# Altium schematic symbol library 转接板封装原理图.SchLib: 62 symbols
Pins are listed as number, name and electrical type; pins without a type are passive.

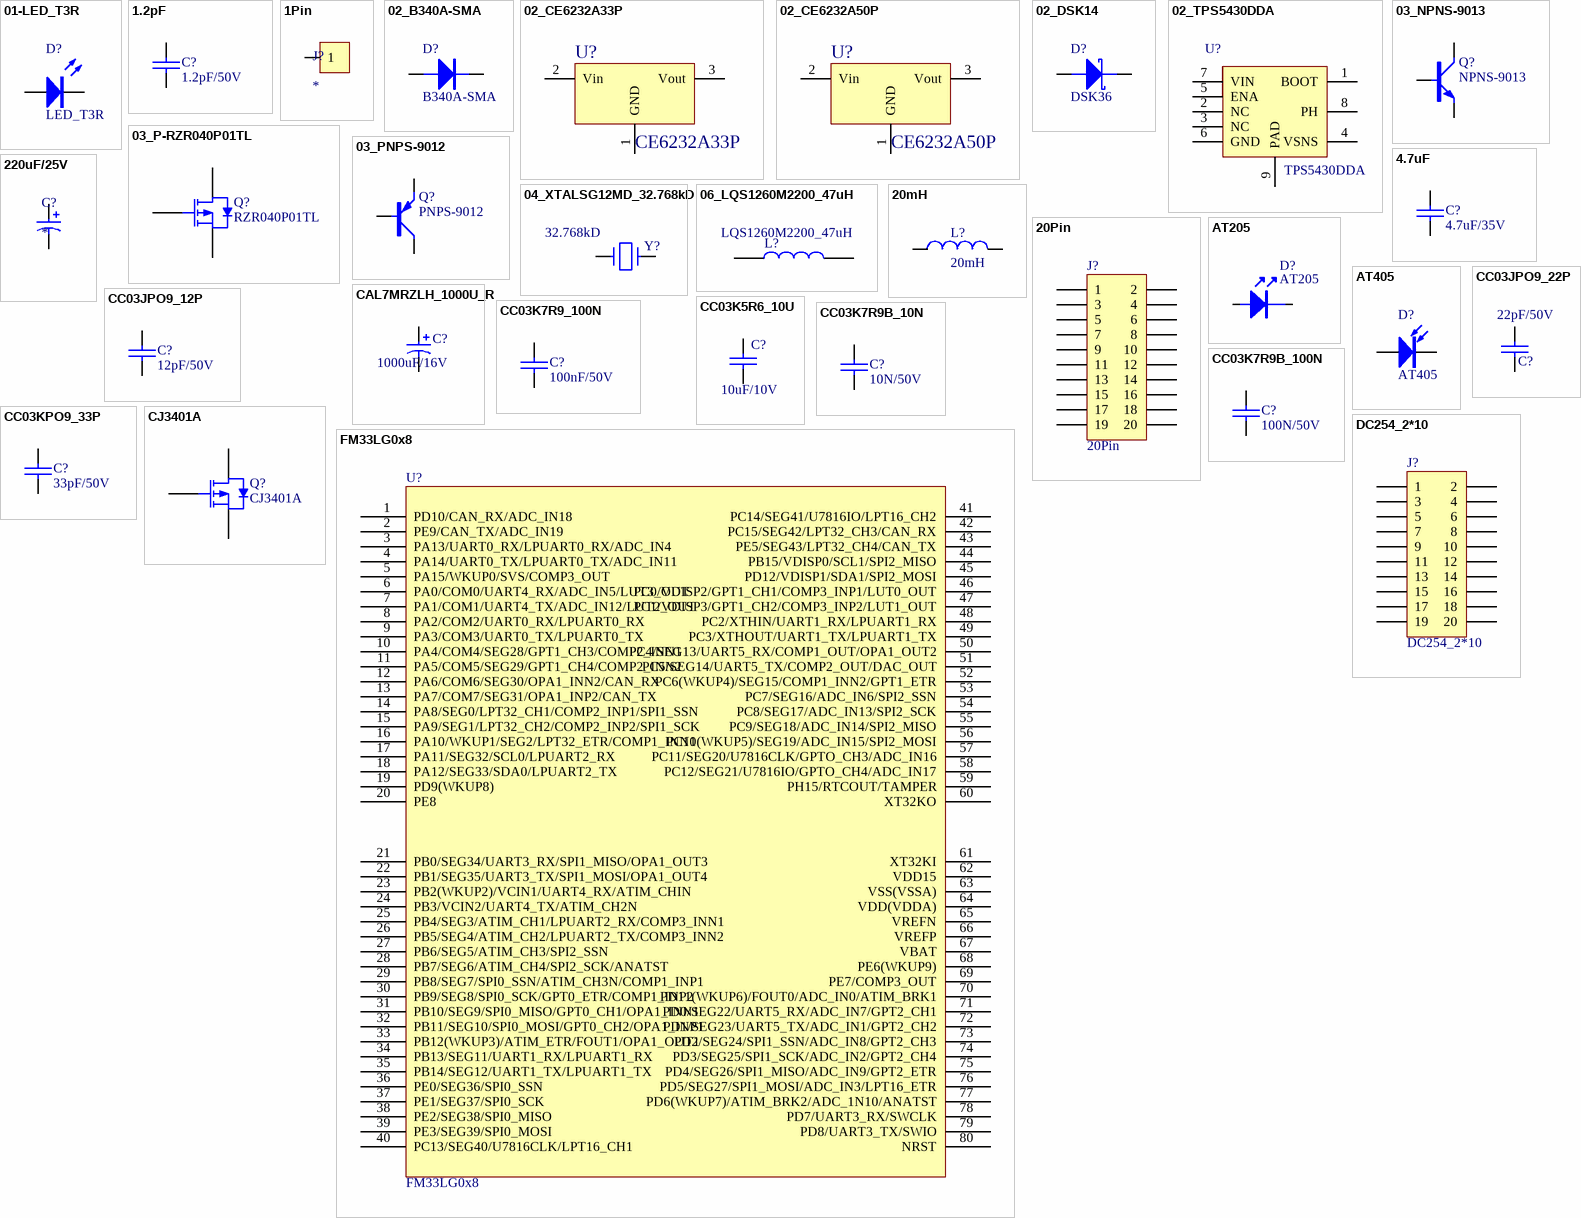
[diagram p0: symbols 01-LED_T3R to FM33LG0x8]

## 01-LED_T3R
designator D?, comment LED_T3R
圆形插件,3mm 圆形,插件,红光,湖北匡通电子有限公司,3BB4HC; Part Number: 101040102-0001; Part Name: 发光二极管; ID: 6; SMD/DIP: DIP
footprint LED2_300
pins: 1, 2

## 1.2pF
designator C?, comment 1.2pF/50V
Part Number: 101020103-0027; Part Name: 0603贴片电容; ID: 17; SMD/DIP: SMD
footprint CAP0603
pins: 1, 2

## 1Pin
designator J?
footprint 顶针孔1
footprint 顶针孔2
pins: 1

## 02_B340A-SMA
designator D?, comment B340A-SMA
Part Number: 101040101-0014; Part Name: 贴片肖特基; ID: 24
footprint DO-214AC
pins: 1, 2

## 02_CE6232A33P
designator U?, comment CE6232A33P
CE6232-3.3,CE6232-3.3,SOT89-3,8V,1.8V,0.11V,3.3V,300mA,0.8uA,南京芯力微电子有限公司; Part Number: 1010503-0029; Part Name: 线性稳压芯片; ID: 5; SMD/DIP: SMD
footprint SOT-89
pins: 1 GND, 2 Vin, 3 Vout
2 alternate drawings of the same symbol

## 02_CE6232A50P
designator U?, comment CE6232A50P
CE6232A50P,CE6232A50P,SOT89-3,8 V,1.8 V,0.11 V,5 V,500mA,0.8 uA,南京芯力微电子有限公司; Part Number: 1010503-0028; Part Name: 线性稳压芯片; ID: 5; SMD/DIP: SMD
footprint SOT-89
pins: 1 GND, 2 Vin, 3 Vout
2 alternate drawings of the same symbol

## 02_DSK14
designator D?, comment DSK36
DSK14,SOD-123FL,1 A,40 V,28 V,台湾强茂集团苏州群鑫电子,DSK14; Part Number: 101040101-0043; Part Name: 二极管; ID: 10; SMD/DIP: SMD
footprint SOD-123FL
pins: 1, 2

## 02_TPS5430DDA
designator U?, comment TPS5430DDA
TPS5430DDA,SOP8,TI,TPS5430DDA; Part Number: 101050101-0053; Part Name: 电源芯片; ID: 9; SMD/DIP: SMD
footprint SOP-8-P
pins: 1 BOOT, 2 NC, 3 NC, 4 VSNS, 5 ENA, 6 GND, 7 VIN, 8 PH, 9 PAD
2 alternate drawings of the same symbol

## 03_NPNS-9013
designator Q?, comment NPNS-9013
9013,NPN,SOT-23,长电,S9013; Part Number: 101040201-0002; Part Name: 贴片三极管; ID: 15; SMD/DIP: SMD
footprint SOT-23
pins: 1 B, 2 E, 3 C

## 03_P-RZR040P01TL
designator Q?, comment RZR040P01TL
RZR040P01TL；1.5v导通,P-MOS,SOT-23,罗姆,RZR040P01TL; Part Number: 101040201-0010; Part Name: PMOS管; ID: 18; SMD/DIP: SMD
footprint SOT-23
pins: 1 G, 2 S, 3 D

## 03_PNPS-9012
designator Q?, comment PNPS-9012
9012,PNP,SOT-23,JCET;长电,S9012; Part Number: 101040201-0001; Part Name: 贴片三极管; ID: 17; SMD/DIP: SMD
footprint SOT-23
pins: 1 B, 2 E, 3 C

## 4.7uF
designator C?, comment 4.7uF/35V
475,4.7uf,35 V,±10%,0603,X5R,TDK,C1608X5R1V475KT000E; Part Number: 101020103-0021; Part Name: 0603贴片电容; ID: 34
footprint CAP0603
pins: 1, 2

## 04_XTALSG12MD_32.768kD
designator Y?, comment 32.768kD
Part Number: 1010601-0020; Part Name: 贴片晶振; ID: 20; SMD/DIP: SMD
footprint SMD-3215_2P
pins: 1, 2

## 06_LQS1260M2200_47uH
designator L?, comment LQS1260M2200_47uH
47uH/2.2A,±20%，0.072Ω，L1200X1200X600; Part Number: 1010302-0007; Part Name: 贴片电感; ID: 3
footprint LQS1212
pins: 1, 2

## 20mH
designator L?
footprint 20mH
pins: 1, 2

## 20Pin
designator J?
DC2 2.54mm 2x10pin,2.54mm间距，2x10pin，32×8.55×27.5mm,母头,双排,双排牛角座; Part Number: 1010902-0139; Part Name: DC牛角座; ID: 4; SMD/DIP: DIP
footprint DC254_2*10 - duplicate
pins: 1, 2, 3, 4, 5, 6, 7, 8, 9, 10, 11, 12, 13, 14, 15, 16, 17, 18, 19, 20

## 220uF/25V
designator C?
220UF,25 V,±20%,8*10mm,立隆电子工业股份有限公司,VEJ221M1ETR-0810; 料号: 1010203-0037
footprint 220uF 25V
pins: 1, 2

## AT205
designator D?
footprint AT205/405
pins: 1, 2

## AT405
designator D?
红外接收头，插件，红光，AT405_PD_01; Part Number: 101040102-0011; Part Name: 红外接收管; Manufacturer: 品观; ID: 6; SMD/DIP: DIP
footprint AT205/405
pins: 1 A, 2 K

## CAL7MRZLH_1000U_R
designator C?, comment 1000uF/16V
1000uF,16 V,±20%,8*20mm,Rubycon,16ZLH1000M; Part Number: 1010203-0029; Part Name: 电解电容; ID: 2; SMD/DIP: DIP
footprint CAPPC_350_800_1600
pins: 1, 2

## CC03JPO9_12P
designator C?, comment 12pF/50V
12P,50 V,±5%,0603,国巨,CC0603JRNPO9BN12; Part Number: 101020103-0005; Part Name: 0603贴片电容; ID: 11; SMD/DIP: SMD
footprint CAP0603
pins: 1, 2

## CC03JPO9_22P
designator C?, comment 22pF/50V
22pF,50 V,±5%,0603,国巨,CC0603JRNPO9BN22; Part Number: 101020103-0009; Part Name: 0603贴片电容; ID: 16; SMD/DIP: SMD
footprint CAP0603
pins: 1, 2

## CC03K5R6_10U
designator C?, comment 10uF/10V
106pF,10 V,±10%,0603,村田,GRM188R61A106KE47D; Part Number: 101020103-0026; Part Name: 0603贴片电容; ID: 8; SMD/DIP: SMD
footprint CAP0603
pins: 1, 2

## CC03K7R9_100N
designator C?, comment 100nF/50V
104pF,50 V,±10%,0603,国巨,CC0603KRX7R9BB104; Part Number: 101020103-0021; Part Name: 0603贴片电容; ID: 3; SMD/DIP: SMD
footprint CAP0603
pins: 1, 2

## CC03K7R9B_10N
designator C?, comment 10N/50V
10N/50V，±10%，0603; Part Number: 101020103-0007; Part Name: 0603贴片电容; ID: 35
footprint CAP0603
pins: 1, 2

## CC03K7R9B_100N
designator C?, comment 100N/50V
100N/50V，±10%，0603; Part Number: 101020103-0021; Part Name: 0603贴片电容; ID: 34
footprint CAP0603
pins: 1, 2

## CC03KPO9_33P
designator C?, comment 33pF/50V
33pF,50 V,±10%,0603,国巨,CC0603KRNPO9BN33; Part Number: 101020103-0027; Part Name: 0603贴片电容; ID: 17; SMD/DIP: SMD
footprint CAP0603
pins: 1, 2

## CJ3401A
designator Q?
CJ3401A,Rohs,P-MOS,SOT-23,江苏长晶,CJ3401A,无铅; Part Number: 101040201-0028; Part Name: PMOS管; ID: 18; SMD/DIP: SMD
footprint SOT-23
pins: 1 G, 2 S, 3 D

## DC254_2*10
designator J?
DC2 2.54mm 2x10pin,2.54mm间距，2x10pin，32×8.55×27.5mm,母头,双排,双排牛角座; Part Number: 1010902-0139; Part Name: DC牛角座; ID: 4; SMD/DIP: DIP
footprint DC254_2*10
pins: 1, 2, 3, 4, 5, 6, 7, 8, 9, 10, 11, 12, 13, 14, 15, 16, 17, 18, 19, 20

## FM33LG0x8
designator U?
footprint LQFP80
footprint LQFP80
pins: 1 PD10/CAN_RX/ADC_IN18, 2 PE9/CAN_TX/ADC_IN19, 3 PA13/UART0_RX/LPUART0_RX/ADC_IN4, 4 PA14/UART0_TX/LPUART0_TX/ADC_IN11, 5 PA15/WKUP0/SVS/COMP3_OUT, 6 PA0/COM0/UART4_RX/ADC_IN5/LUT3_OUT, 7 PA1/COM1/UART4_TX/ADC_IN12/LUT2_OUT, 8 PA2/COM2/UART0_RX/LPUART0_RX, 9 PA3/COM3/UART0_TX/LPUART0_TX, 10 PA4/COM4/SEG28/GPT1_CH3/COMP2_INN1, 11 PA5/COM5/SEG29/GPT1_CH4/COMP2_INN2, 12 PA6/COM6/SEG30/OPA1_INN2/CAN_RX, 13 PA7/COM7/SEG31/OPA1_INP2/CAN_TX, 14 PA8/SEG0/LPT32_CH1/COMP2_INP1/SPI1_SSN, 15 PA9/SEG1/LPT32_CH2/COMP2_INP2/SPI1_SCK, 16 PA10/WKUP1/SEG2/LPT32_ETR/COMP1_INN1, 17 PA11/SEG32/SCL0/LPUART2_RX, 18 PA12/SEG33/SDA0/LPUART2_TX, 19 PD9(WKUP8), 20 PE8, 21 PB0/SEG34/UART3_RX/SPI1_MISO/OPA1_OUT3, 22 PB1/SEG35/UART3_TX/SPI1_MOSI/OPA1_OUT4, 23 PB2(WKUP2)/VCIN1/UART4_RX/ATIM_CHIN, 24 PB3/VCIN2/UART4_TX/ATIM_CH2N, 25 PB4/SEG3/ATIM_CH1/LPUART2_RX/COMP3_INN1, 26 PB5/SEG4/ATIM_CH2/LPUART2_TX/COMP3_INN2, 27 PB6/SEG5/ATIM_CH3/SPI2_SSN, 28 PB7/SEG6/ATIM_CH4/SPI2_SCK/ANATST, 29 PB8/SEG7/SPI0_SSN/ATIM_CH3N/COMP1_INP1, 30 PB9/SEG8/SPI0_SCK/GPT0_ETR/COMP1_INP2, 31 PB10/SEG9/SPI0_MISO/GPT0_CH1/OPA1_INN1, 32 PB11/SEG10/SPI0_MOSI/GPT0_CH2/OPA1_INP1, 33 PB12(WKUP3)/ATIM_ETR/FOUT1/OPA1_OUT1, 34 PB13/SEG11/UART1_RX/LPUART1_RX, 35 PB14/SEG12/UART1_TX/LPUART1_TX, 36 PE0/SEG36/SPI0_SSN, 37 PE1/SEG37/SPI0_SCK, 38 PE2/SEG38/SPI0_MISO, 39 PE3/SEG39/SPI0_MOSI, 40 PC13/SEG40/U7816CLK/LPT16_CH1, 41 PC14/SEG41/U7816IO/LPT16_CH2, 42 PC15/SEG42/LPT32_CH3/CAN_RX, 43 PE5/SEG43/LPT32_CH4/CAN_TX, 44 PB15/VDISP0/SCL1/SPI2_MISO, 45 PD12/VDISP1/SDA1/SPI2_MOSI, 46 PC0/VDISP2/GPT1_CH1/COMP3_INP1/LUT0_OUT, 47 PC1/VDISP3/GPT1_CH2/COMP3_INP2/LUT1_OUT, 48 PC2/XTHIN/UART1_RX/LPUART1_RX, 49 PC3/XTHOUT/UART1_TX/LPUART1_TX, 50 PC4/SEG13/UART5_RX/COMP1_OUT/OPA1_OUT2, 51 PC5/SEG14/UART5_TX/COMP2_OUT/DAC_OUT, 52 PC6(WKUP4)/SEG15/COMP1_INN2/GPT1_ETR, 53 PC7/SEG16/ADC_IN6/SPI2_SSN, 54 PC8/SEG17/ADC_IN13/SPI2_SCK, 55 PC9/SEG18/ADC_IN14/SPI2_MISO, 56 PC10(WKUP5)/SEG19/ADC_IN15/SPI2_MOSI, 57 PC11/SEG20/U7816CLK/GPTO_CH3/ADC_IN16, 58 PC12/SEG21/U7816IO/GPTO_CH4/ADC_IN17, 59 PH15/RTCOUT/TAMPER, 60 XT32KO, 61 XT32KI, 62 VDD15, 63 VSS(VSSA), 64 VDD(VDDA), 65 VREFN, 66 VREFP "VREFN", 67 VBAT "VREFN", 68 PE6(WKUP9) "VREFN", 69 PE7/COMP3_OUT "VREFN", 70 PD11(WKUP6)/FOUT0/ADC_IN0/ATIM_BRK1 "VREFN", 71 PD0/SEG22/UART5_RX/ADC_IN7/GPT2_CH1 "VREFN", 72 PD1/SEG23/UART5_TX/ADC_IN1/GPT2_CH2 "VREFN", 73 PD2/SEG24/SPI1_SSN/ADC_IN8/GPT2_CH3 "VREFN", 74 PD3/SEG25/SPI1_SCK/ADC_IN2/GPT2_CH4 "VREFN", 75 PD4/SEG26/SPI1_MISO/ADC_IN9/GPT2_ETR "VREFN", 76 PD5/SEG27/SPI1_MOSI/ADC_IN3/LPT16_ETR "VREFN", 77 PD6(WKUP7)/ATIM_BRK2/ADC_1N10/ANATST "VREFN", 78 PD7/UART3_RX/SWCLK "VREFN", 79 PD8/UART3_TX/SWIO "VREFN", 80 NRST "VREFN"

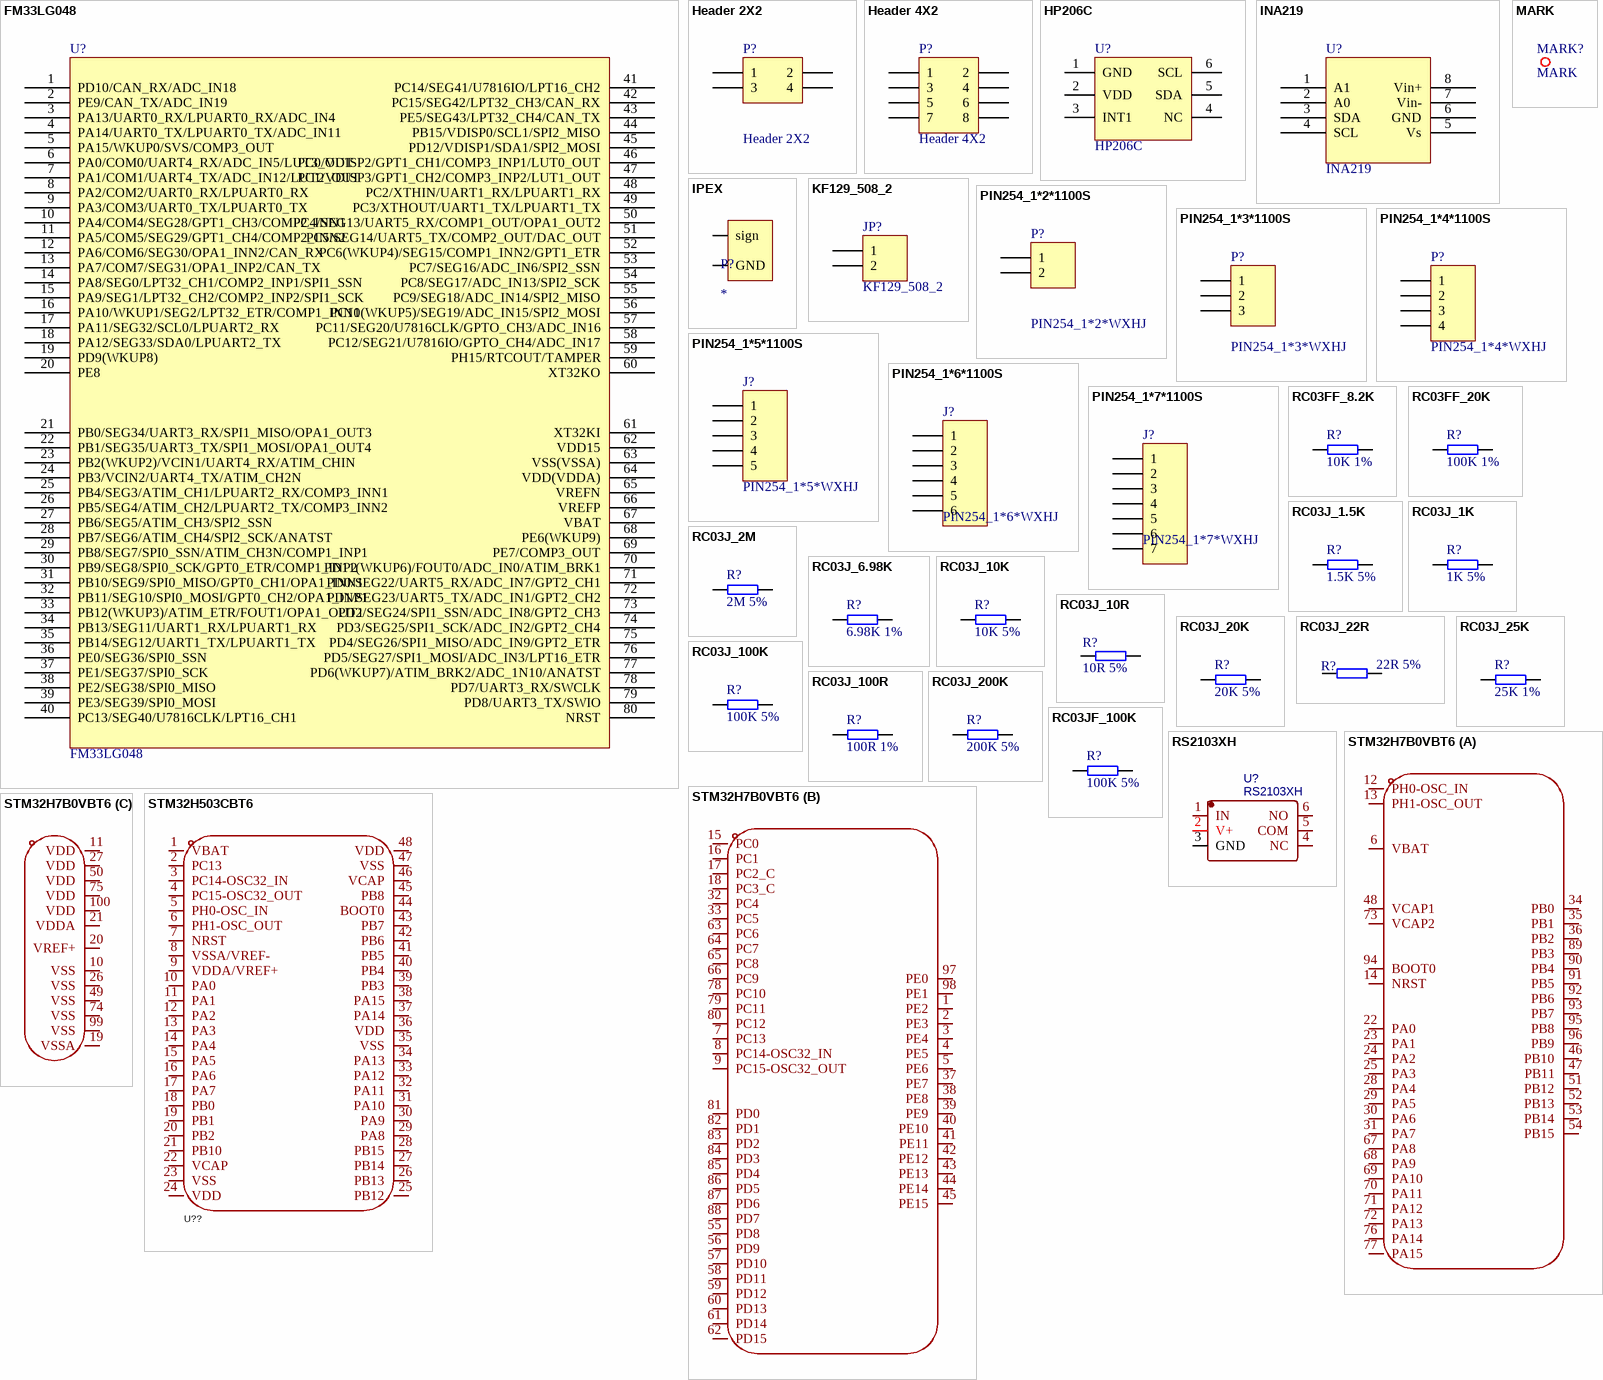
[diagram p1: symbols FM33LG048 to STM32H503CBT6]

## FM33LG048
designator U?
101050101-0261
footprint LQFP80
pins: 1 PD10/CAN_RX/ADC_IN18, 2 PE9/CAN_TX/ADC_IN19, 3 PA13/UART0_RX/LPUART0_RX/ADC_IN4, 4 PA14/UART0_TX/LPUART0_TX/ADC_IN11, 5 PA15/WKUP0/SVS/COMP3_OUT, 6 PA0/COM0/UART4_RX/ADC_IN5/LUT3_OUT, 7 PA1/COM1/UART4_TX/ADC_IN12/LUT2_OUT, 8 PA2/COM2/UART0_RX/LPUART0_RX, 9 PA3/COM3/UART0_TX/LPUART0_TX, 10 PA4/COM4/SEG28/GPT1_CH3/COMP2_INN1, 11 PA5/COM5/SEG29/GPT1_CH4/COMP2_INN2, 12 PA6/COM6/SEG30/OPA1_INN2/CAN_RX, 13 PA7/COM7/SEG31/OPA1_INP2/CAN_TX, 14 PA8/SEG0/LPT32_CH1/COMP2_INP1/SPI1_SSN, 15 PA9/SEG1/LPT32_CH2/COMP2_INP2/SPI1_SCK, 16 PA10/WKUP1/SEG2/LPT32_ETR/COMP1_INN1, 17 PA11/SEG32/SCL0/LPUART2_RX, 18 PA12/SEG33/SDA0/LPUART2_TX, 19 PD9(WKUP8), 20 PE8, 21 PB0/SEG34/UART3_RX/SPI1_MISO/OPA1_OUT3, 22 PB1/SEG35/UART3_TX/SPI1_MOSI/OPA1_OUT4, 23 PB2(WKUP2)/VCIN1/UART4_RX/ATIM_CHIN, 24 PB3/VCIN2/UART4_TX/ATIM_CH2N, 25 PB4/SEG3/ATIM_CH1/LPUART2_RX/COMP3_INN1, 26 PB5/SEG4/ATIM_CH2/LPUART2_TX/COMP3_INN2, 27 PB6/SEG5/ATIM_CH3/SPI2_SSN, 28 PB7/SEG6/ATIM_CH4/SPI2_SCK/ANATST, 29 PB8/SEG7/SPI0_SSN/ATIM_CH3N/COMP1_INP1, 30 PB9/SEG8/SPI0_SCK/GPT0_ETR/COMP1_INP2, 31 PB10/SEG9/SPI0_MISO/GPT0_CH1/OPA1_INN1, 32 PB11/SEG10/SPI0_MOSI/GPT0_CH2/OPA1_INP1, 33 PB12(WKUP3)/ATIM_ETR/FOUT1/OPA1_OUT1, 34 PB13/SEG11/UART1_RX/LPUART1_RX, 35 PB14/SEG12/UART1_TX/LPUART1_TX, 36 PE0/SEG36/SPI0_SSN, 37 PE1/SEG37/SPI0_SCK, 38 PE2/SEG38/SPI0_MISO, 39 PE3/SEG39/SPI0_MOSI, 40 PC13/SEG40/U7816CLK/LPT16_CH1, 41 PC14/SEG41/U7816IO/LPT16_CH2, 42 PC15/SEG42/LPT32_CH3/CAN_RX, 43 PE5/SEG43/LPT32_CH4/CAN_TX, 44 PB15/VDISP0/SCL1/SPI2_MISO, 45 PD12/VDISP1/SDA1/SPI2_MOSI, 46 PC0/VDISP2/GPT1_CH1/COMP3_INP1/LUT0_OUT, 47 PC1/VDISP3/GPT1_CH2/COMP3_INP2/LUT1_OUT, 48 PC2/XTHIN/UART1_RX/LPUART1_RX, 49 PC3/XTHOUT/UART1_TX/LPUART1_TX, 50 PC4/SEG13/UART5_RX/COMP1_OUT/OPA1_OUT2, 51 PC5/SEG14/UART5_TX/COMP2_OUT/DAC_OUT, 52 PC6(WKUP4)/SEG15/COMP1_INN2/GPT1_ETR, 53 PC7/SEG16/ADC_IN6/SPI2_SSN, 54 PC8/SEG17/ADC_IN13/SPI2_SCK, 55 PC9/SEG18/ADC_IN14/SPI2_MISO, 56 PC10(WKUP5)/SEG19/ADC_IN15/SPI2_MOSI, 57 PC11/SEG20/U7816CLK/GPTO_CH3/ADC_IN16, 58 PC12/SEG21/U7816IO/GPTO_CH4/ADC_IN17, 59 PH15/RTCOUT/TAMPER, 60 XT32KO, 61 XT32KI, 62 VDD15, 63 VSS(VSSA), 64 VDD(VDDA), 65 VREFN, 66 VREFP "VREFN", 67 VBAT "VREFN", 68 PE6(WKUP9) "VREFN", 69 PE7/COMP3_OUT "VREFN", 70 PD11(WKUP6)/FOUT0/ADC_IN0/ATIM_BRK1 "VREFN", 71 PD0/SEG22/UART5_RX/ADC_IN7/GPT2_CH1 "VREFN", 72 PD1/SEG23/UART5_TX/ADC_IN1/GPT2_CH2 "VREFN", 73 PD2/SEG24/SPI1_SSN/ADC_IN8/GPT2_CH3 "VREFN", 74 PD3/SEG25/SPI1_SCK/ADC_IN2/GPT2_CH4 "VREFN", 75 PD4/SEG26/SPI1_MISO/ADC_IN9/GPT2_ETR "VREFN", 76 PD5/SEG27/SPI1_MOSI/ADC_IN3/LPT16_ETR "VREFN", 77 PD6(WKUP7)/ATIM_BRK2/ADC_1N10/ANATST "VREFN", 78 PD7/UART3_RX/SWCLK "VREFN", 79 PD8/UART3_TX/SWIO "VREFN", 80 NRST "VREFN"

## Header 2X2
designator P?
Header, 4-Pin, Dual row
footprint HDR2X2 (Connector; Header; 2x2 Position)
pins: 1, 2, 3, 4

## Header 4X2
designator P?
Header, 4-Pin, Dual row
footprint HDR2X4 (Connector; Header; 4x2 Position)
footprint HDR2X4H (Connector; Header; 4x2 Position; Right Angle)
pins: 1, 2, 3, 4, 5, 6, 7, 8

## HP206C
designator U?
Part Number: 1011301-0011
footprint HP206C
pins: 1 GND, 2 VDD, 3 INT1, 4 NC, 5 SDA, 6 SCL

## INA219
designator U?
footprint SO-8
pins: 1 A1, 2 A0, 3 SDA, 4 SCL, 5 Vs, 6 GND, 7 Vin-, 8 Vin+

## IPEX
designator P?
footprint ANT-IPEX (IPX天线座)
pins: 1 sign, 2 GND

## KF129_508_2
designator JP?
KF129-2P,螺丝紧固,2,ABS,松涛; Part Number: 1010904-0015; Part Name: 接线端子; ID: 7; SMD/DIP: DIP
footprint KF129_508_2
pins: 1, 2

## MARK
designator MARK?
MARK点; Part Number: AD_WXHJ_MARK_01; ID: 8; SMD/DIP: SMD; Part Name: MARK点
footprint MARK

## PIN254_1*2*1100S
designator P?, comment PIN254_1*2*WXHJ
1*2 ，Φ1.0 ，2.54mm，直脚,无需焊接器件; Part Number: AD_WXHJ_PinHeader_01; Part Name: 排针; ID: 16; SMD/DIP: DIP
footprint PIN254_1*2*1100S (Connector; Header; 4 Position)
pins: 1, 2

## PIN254_1*3*1100S
designator P?, comment PIN254_1*3*WXHJ
1*3 ，Φ1.0 ，2.54mm，直脚,无需焊接器件; Part Number: AD_WXHJ_PinHeader_01; Part Name: 排针; ID: 16; SMD/DIP: DIP
footprint PIN254_1*3*1100S (Connector; Header; 4 Position)
pins: 1, 2, 3

## PIN254_1*4*1100S
designator P?, comment PIN254_1*4*WXHJ
1*4 ，Φ1.0 ，2.54mm，直脚,无需焊接器件; Part Number: AD_WXHJ_PinHeader_01; Part Name: 排针; ID: 16; SMD/DIP: DIP
footprint PIN254_1*4*1100S
pins: 1, 2, 3, 4

## PIN254_1*5*1100S
designator J?, comment PIN254_1*5*WXHJ
1*5 ，Φ1.0 ，2.54mm，直脚,无需焊接器件; Part Number: AD_WXHJ_PinHeader_02; Part Name: 排针; ID: 17; SMD/DIP: DIP
footprint PIN254_1*5*1100S
pins: 1, 2, 3, 4, 5

## PIN254_1*6*1100S
designator J?, comment PIN254_1*6*WXHJ
1*6 ，Φ1.0 ，2.54mm，直脚,无需焊接器件; Part Number: AD_WXHJ_PinHeader_02; Part Name: 排针; ID: 17; SMD/DIP: DIP
footprint PIN254_1*6*1100S
pins: 1, 2, 3, 4, 5, 6

## PIN254_1*7*1100S
designator J?, comment PIN254_1*7*WXHJ
1*7 ，Φ1.0 ，2.54mm，直脚,无需焊接器件; Part Number: AD_WXHJ_PinHeader_02; Part Name: 排针; ID: 17; SMD/DIP: DIP
footprint PIN254_1*7*1100S
pins: 1, 2, 3, 4, 5, 6, 7

## RC03FF_8.2K
designator R?, comment 10K 1%
8.2k±1%,1/10W,0603; Part Number: 101010103-0053; Part Name: 0603贴片电阻; ID: 142
footprint RES0603
pins: 1, 2

## RC03FF_20K
designator R?, comment 100K 1%
20K±1%,1/10W,0603; Part Number: 101010103-0048; Part Name: 0603贴片电阻; ID: 139
footprint RES0603
pins: 1, 2

## RC03J_1.5K
designator R?, comment 1.5K 5%
1.5K,±5%,1/10W,0603,国巨,RC0603JR-071K5L; Part Number: 101010103-0013; Part Name: 0603贴片电阻; ID: 10; SMD/DIP: SMD
footprint RES0603
pins: 1, 2

## RC03J_1K
designator R?, comment 1K 5%
1K,±5%,1/10W,0603,国巨,RC0603JR-071KL; Part Number: 101010103-0008; Part Name: 0603贴片电阻; ID: 10; SMD/DIP: SMD
footprint RES0603
pins: 1, 2

## RC03J_2M
designator R?, comment 2M 5%
国巨,±5%,0603,,155 ℃,-55 ℃,RC0603JR-072ML,含铅,100 ppm/℃,1/10W,,2M; Part Number: 101010103-0025; Part Name: 0603贴片电阻; ID: 20; SMD/DIP: SMD
footprint RES0603
pins: 1, 2

## RC03J_6.98K
designator R?, comment 6.98K 1%
6.98K,±1%,1/10W,0603,国巨股份有限公司,RC0603FR-076K98L; Part Number: 101010103-0083; Part Name: 0603贴片电阻; ID: 10; SMD/DIP: SMD
footprint RES0603
pins: 1, 2

## RC03J_10K
designator R?, comment 10K 5%
国巨,±5%,0603,,155 ℃,-55 ℃,RC0603JR-0710KL,无铅,200 ppm/℃,1/10W,,10K; Part Number: 101010103-0003; Part Name: 0603贴片电阻; ID: 7; SMD/DIP: SMD
footprint RES0603
pins: 1, 2

## RC03J_10R
designator R?, comment 10R 5%
10R,±5%,1/10W,0603,国巨,RC0603JR-0710RL; Part Number: 101010103-0017; Part Name: 0603贴片电阻; ID: 8; SMD/DIP: SMD
footprint RES0603
pins: 1, 2

## RC03J_20K
designator R?, comment 20K 5%
国巨,±5%,0603,,155 ℃,-55 ℃,RC0603JR-0720KL,无铅,200 ppm/℃,1/10W,,20K; Part Number: 101010103-0004; Part Name: 0603贴片电阻; ID: 15; SMD/DIP: SMD
footprint RES0603
pins: 1, 2

## RC03J_22R
designator R?, comment 22R 5%
国巨,±5%,0603,,155 ℃,-55 ℃,RC0603JR-0722RL,无铅,200 ppm/℃,1/10W,,22欧; Part Number: 101010103-0009; Part Name: 0603贴片电阻; ID: 18; SMD/DIP: SMD
footprint RES0603
pins: 1, 2

## RC03J_25K
designator R?, comment 25K 1%
25K±1%,1/10W,0603; Part Number: 101010103-0056; Part Name: 0603贴片电阻; ID: 10; SMD/DIP: SMD
footprint RES0603
pins: 1, 2

## RC03J_100K
designator R?, comment 100K 5%
国巨,±5%,0603,,155 ℃,-55 ℃,RC0603JR-07100KL,无铅,100 ppm/℃,1/10W,,100K; Part Number: 101010103-0005; Part Name: 0603贴片电阻; ID: 3; SMD/DIP: SMD
footprint RES0603
pins: 1, 2

## RC03J_100R
designator R?, comment 100R 1%
100Ω,±1%,1/10W,0603,国巨股份有限公司,RC0603FR-07100RL; Part Number: 101010103-0041; Part Name: 0603贴片电阻; ID: 4; SMD/DIP: SMD
footprint RES0603
pins: 1, 2

## RC03J_200K
designator R?, comment 200K 5%
200K,±5%,1/10W,0603,国巨,RC0603JR-07200KL; Part Number: 101010103-0034; Part Name: 0603贴片电阻; ID: 13; SMD/DIP: SMD
footprint RES0603
pins: 1, 2

## RC03JF_100K
designator R?, comment 100K 5%
100K±5%,1/10W,0603; Part Number: 101010103-0005; Part Name: 0603贴片电阻; ID: 30
footprint RES0603
pins: 1, 2

## RS2103XH
designator U?
BOM_Manufacturer: Jiangsu RUNIC Tech; Contributor: LCSC; BOM_Supplier: LCSC; BOM_Supplier Part: C255472; BOM_Manufacturer Part: RS2103XH; BOM_JLCPCB Part Class: Extended Part; spicePre: U; spiceSymbolName: RS2103XH
footprint SOT-23-6
footprint SOT-23-6
pins: 1 IN, 2 V+, 3 GND, 4 NC, 5 COM, 6 NO

## STM32H7B0VBT6
designator U??  (value not drawn)
Manufacturer: ST(意法半导体); Add into BOM: yes; Program Storage Size: 128KB; RAM Size: 1.4MB; GPIO Ports Number: 80; Operating Voltage Range: 1.62V~3.6V; CPU Maximum Speed: 280MHz; Program Memory Type: FLASH; ADC (Bit): 16bit; DAC (Bit): 12bit; Universal Serial Bus: 有; Peripheral/Function: DMA；LCD/LED驱动; Symbol: STM32H7B0VBT6; Device: STM32H7B0VBT6; LCSC Part Name: 高性能和带 DP-FPU 的 DSP、配备 128KB 闪存内存、1376 KB SRAM、280 MHz CPU、L1 缓存、图形加速、外部内存接口、SMPS 和大量外围设备的 Arm Cortex-M7 微控制器; Supplier Part: C730227; Manufacturer Part: STM32H7B0VBT6; Supplier Footprint: LQFP-100(14x14); JLCPCB Part Class: Extended Part; Datasheet: https://atta.szlcsc.com/upload/public/pdf/source/20200902/C730225_664883C886B4E760FDC927233147DBDC.pdf; Supplier: LCSC; Convert to PCB: yes; CPU Core: -; Operating Temperature Range: -40℃~+85℃; PWM (Bit): -; Internal Comparator: -; communication protocol: -; Watchdog: 有; Real-Time Clock: -; Infrared Data Association: 有; Low-Voltage Detect: 有; CCP Capture/Compare: -; LCD Module: 有; Secure Digital Input and Output: 有; Direct Memory Access: 有; Internal Oscillator: 有
footprint LQFP-100_L14.0-W14.0-P0.50-LS16.0-BL
part A pins: 6 VBAT, 12 PH0-OSC_IN, 13 PH1-OSC_OUT, 14 NRST, 22 PA0, 23 PA1, 24 PA2, 25 PA3, 28 PA4, 29 PA5, 30 PA6, 31 PA7, 34 PB0, 35 PB1, 36 PB2, 46 PB10, 47 PB11, 48 VCAP1, 51 PB12, 52 PB13, 53 PB14, 54 PB15, 67 PA8, 68 PA9, 69 PA10, 70 PA11, 71 PA12, 72 PA13, 73 VCAP2, 76 PA14, 77 PA15, 89 PB3, 90 PB4, 91 PB5, 92 PB6, 93 PB7, 94 BOOT0, 95 PB8, 96 PB9
part B pins: 1 PE2, 2 PE3, 3 PE4, 4 PE5, 5 PE6, 7 PC13, 8 PC14-OSC32_IN, 9 PC15-OSC32_OUT, 15 PC0, 16 PC1, 17 PC2_C, 18 PC3_C, 32 PC4, 33 PC5, 37 PE7, 38 PE8, 39 PE9, 40 PE10, 41 PE11, 42 PE12, 43 PE13, 44 PE14, 45 PE15, 55 PD8, 56 PD9, 57 PD10, 58 PD11, 59 PD12, 60 PD13, 61 PD14, 62 PD15, 63 PC6, 64 PC7, 65 PC8, 66 PC9, 78 PC10, 79 PC11, 80 PC12, 81 PD0, 82 PD1, 83 PD2, 84 PD3, 85 PD4, 86 PD5, 87 PD6, 88 PD7, 97 PE0, 98 PE1
part C pins: 10 VSS, 11 VDD, 19 VSSA, 20 VREF+, 21 VDDA, 26 VSS, 27 VDD, 49 VSS, 50 VDD, 74 VSS, 75 VDD, 99 VSS, 100 VDD

## STM32H503CBT6
designator U??  (value not drawn)
Manufacturer: ST(意法半导体); Add into BOM: yes; Symbol: STM32H503CBT6; Device: STM32H503CBT6; LCSC Part Name: STM32H503CBT6; Supplier Part: C17700273; Manufacturer Part: STM32H503CBT6; Supplier Footprint: LQFP-48(7x7); JLCPCB Part Class: Extended Part; Datasheet: https://atta.szlcsc.com/upload/public/pdf/source/20240910/D4990ECC418F560B9DBCE13634236E70.pdf; Supplier: LCSC; Convert to PCB: yes; Comment_1: STM32H503CBT6
footprint LQFP-48
pins: 1 VBAT, 2 PC13, 3 PC14-OSC32_IN, 4 PC15-OSC32_OUT, 5 PH0-OSC_IN, 6 PH1-OSC_OUT, 7 NRST, 8 VSSA/VREF-, 9 VDDA/VREF+, 10 PA0, 11 PA1, 12 PA2, 13 PA3, 14 PA4, 15 PA5, 16 PA6, 17 PA7, 18 PB0, 19 PB1, 20 PB2, 21 PB10, 22 VCAP, 23 VSS, 24 VDD, 25 PB12, 26 PB13, 27 PB14, 28 PB15, 29 PA8, 30 PA9, 31 PA10, 32 PA11, 33 PA12, 34 PA13, 35 VSS, 36 VDD, 37 PA14, 38 PA15, 39 PB3, 40 PB4, 41 PB5, 42 PB6, 43 PB7, 44 BOOT0, 45 PB8, 46 VCAP, 47 VSS, 48 VDD